# EAGLE library part 74HC595D (library 74HC595D)
Shift Register Single 8-Bit Serial to Serial/Parallel 16-Pin SOIC T/R Source: Datasheet <https://toshiba.semicon-storage.com/info/docget.jsp?did=36768&prodName=74HC595D>
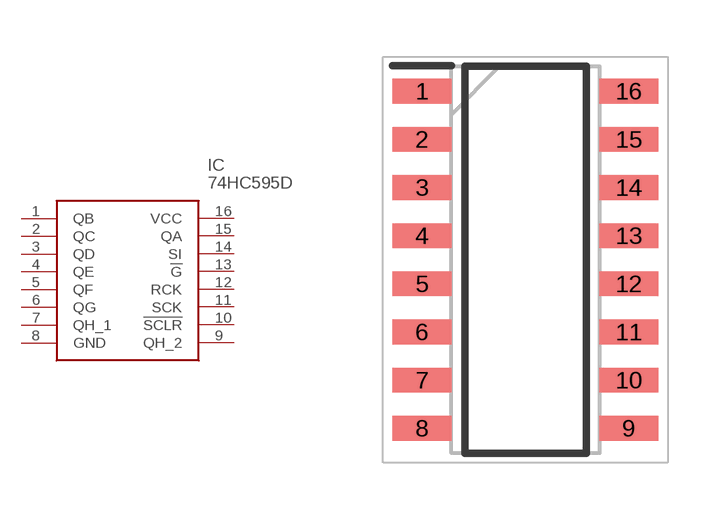
[diagram p0: symbol with the pads of SOIC127P600X175-16N; footprint SOIC127P600X175-16N]

Designator prefix IC

## 74HC595D (Description: Shift Register Single 8-Bit Serial to Serial/Parallel 16-Pin SOIC T/R; Height: 1.75mm; Manufacturer_Name: Toshiba; Manufacturer_Part_Number: 74HC595D; Mouser_Part_Number: 757-74HC595D; Mouser_Price-Stock: https://www.mouser.co.uk/ProductDetail/Toshiba/74HC595D?qs=7EBvPakHacViJoQmXKcnew%3D%3D)  [SOIC127P600X175-16N]
1  QB
2  QC
3  QD
4  QE
5  QF
6  QG
7  QH_1
8  GND
9  QH_2
10  !SCLR
11  SCK
12  RCK
13  !G
14  SI
15  QA
16  VCC

## Footprint SOIC127P600X175-16N (pad centres in mm)
ssop 16 pin
smd 1.55 x 0.65: 1 -2.725,4.445; 2 -2.725,3.175; 3 -2.725,1.905; 4 -2.725,0.635; 5 -2.725,-0.635; 6 -2.725,-1.905; 7 -2.725,-3.175; 8 -2.725,-4.445; 9 2.725,-4.445; 10 2.725,-3.175; 11 2.725,-1.905; 12 2.725,-0.635; 13 2.725,0.635; 14 2.725,1.905; 15 2.725,3.175; 16 2.725,4.445